# Altium schematic symbol library Capacitors.SchLib: 18 symbols
Pins are listed as number, name and electrical type; pins without a type are passive.

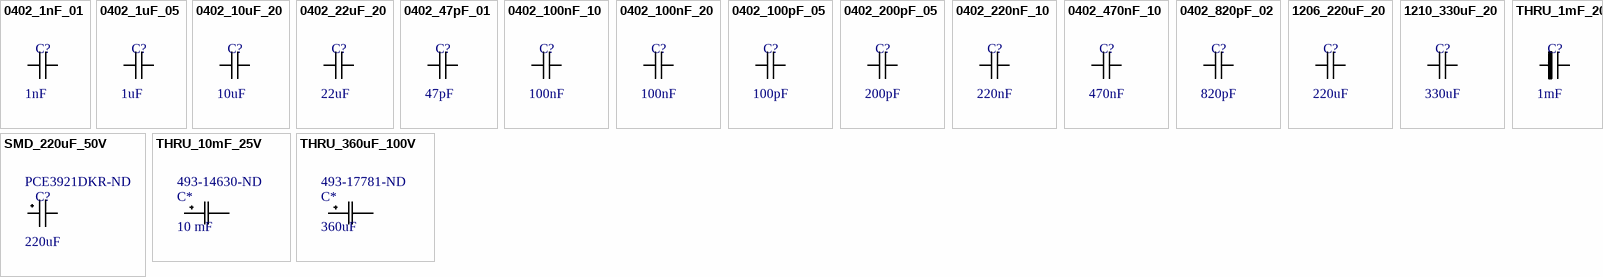
[diagram p0: symbols 0402_1nF_01 to THRU_360uF_100V]

## 0402_1nF_01
designator C?, comment 1nF
1nF 1% 0402; Supplier 1: Digi-Key; Supplier Part Number 1: 490-6189-1-ND; Value: 1nF
footprint RES0402R (resistor 0402 reflow soldering)
pins: 1, 2

## 0402_1uF_05
designator C?, comment 1uF
1uF 5% 0402; Supplier 1: Digi-Key; Supplier Part Number 1: 1276-1444-1-ND; Value: 1uF
footprint RES0402R (resistor 0402 reflow soldering)
pins: 1, 2

## 0402_10uF_20
designator C?, comment 10uF
10uF 20% 0402; Supplier 1: Digi-Key; Supplier Part Number 1: 490-13233-1-ND; Value: 10uF
footprint RES0402R (resistor 0402 reflow soldering)
pins: 1, 2

## 0402_22uF_20
designator C?, comment 22uF
22uF 20% 0402; Supplier 1: Digi-Key; Supplier Part Number 1: 1276-6804-1-ND; Value: 22uF
footprint RES0402R (resistor 0402 reflow soldering)
pins: 1, 2

## 0402_47pF_01
designator C?, comment 47pF
47pF 1% 0402; Supplier 1: Digi-Key; Supplier Part Number 1: 490-6241-1-ND; Value: 47pF
footprint RES0402R (resistor 0402 reflow soldering)
pins: 1, 2

## 0402_100nF_10
designator C?, comment 100nF
100nF 10% 0402; Supplier 1: Digi-Key; Supplier Part Number 1: 490-6328-1-ND; Value: 100nF
footprint RES0402R (resistor 0402 reflow soldering)
pins: 1, 2

## 0402_100nF_20
designator C?, comment 100nF
100nF 20% 0402; Supplier 1: Digi-Key; Supplier Part Number 1: 490-10459-1-ND; Value: 100nF
footprint RES0402R (resistor 0402 reflow soldering)
pins: 1, 2

## 0402_100pF_05
designator C?, comment 100pF
100pF 5% 0402; Supplier 1: Digi-Key; Supplier Part Number 1: 490-7753-1-ND; Value: 100pF
footprint RES0402R (resistor 0402 reflow soldering)
pins: 1, 2

## 0402_200pF_05
designator C?, comment 200pF
200pF 5% 0402; Supplier 1: Digi-Key; Supplier Part Number 1: 490-3232-1-ND; Value: 200pF
footprint RES0402R (resistor 0402 reflow soldering)
pins: 1, 2

## 0402_220nF_10
designator C?, comment 220nF
220nF 10% 0402; Supplier 1: Digi-Key; Supplier Part Number 1: 587-3500-1-ND; Value: 220nF
footprint RES0402R (resistor 0402 reflow soldering)
pins: 1, 2

## 0402_470nF_10
designator C?, comment 470nF
470nF 10% 0402; Supplier 1: Digi-Key; Supplier Part Number 1: 587-3497-1-ND; Value: 470nF
footprint RES0402R (resistor 0402 reflow soldering)
pins: 1, 2

## 0402_820pF_02
designator C?, comment 820pF
820pF 2% 0402; Supplier 1: Digi-Key; Supplier Part Number 1: 490-10688-1-ND; Value: 820pF
footprint RES0402R (resistor 0402 reflow soldering)
pins: 1, 2

## 1206_220uF_20
designator C?, comment 220uF
330uF 20% 1210; Supplier 1: Digi-Key; Supplier Part Number 1: 490-13965-1-ND; Value: 220uF
footprint 1206_CAP (Chip Capacitor, 2-Leads, Body 3.20x1.60mm, IPC High Density)
pins: 1, 2

## 1210_330uF_20
designator C?, comment 330uF
330uF 20% 1210; Supplier 1: Digi-Key; Supplier Part Number 1: 587-3976-1-ND; Value: 330uF
footprint 1210_CAP (Chip Capacitor, 2-Leads, Body 3.20x2.50mm, IPC High Density)
pins: 1, 2

## SMD_220uF_50V
designator C?, comment Supplier Part Number 1: PCE3921DKR-ND  (hidden comment: 220uF)
220uF_50V; Supplier 1: Digi-Key; Value: 220uF
footprint PAN_CAPAE_220uF_50V (Aluminum Electrolytic Capacitor, Body 10.30x10.30x10.50mm, IPC High Density)
pins: 1, 2

## THRU_1mF_20
designator C?, comment 1mF
1mF 20% Thru-Hole; Supplier 1: Digi-Key; Supplier Part Number 1: 399-6624-ND; Value: 1mF
footprint KEM_CAP_THRU
pins: 1, 2

## THRU_10mF_25V
designator C*, comment 10 mF  Supplier Part Number 1: 493-14630-ND
10000 µF 25 V Aluminum Electrolytic Capacitors Radial, Can 19mOhm @ 100kHz 3000 Hrs @ 135°C; Tolerance: +/- 20%; Supplier 1: Digi-Key; Capacitance: 10 mF; ESR: 19 mOhm @ 100kHz
footprint UBY1E103MHL (10000 µF 25 V Aluminum Electrolytic Capacitors Radial, Can 19mOhm @ 100kHz 3000 Hrs @ 135°C)
pins: 1, 2

## THRU_360uF_100V
designator C*, comment 360uF  Supplier Part Number 1: 493-17781-ND
360 µF 100 V Aluminum Electrolytic Capacitors Radial, Can 38mOhm @ 100kHz 3000 Hrs @ 135°C; Tolerance: 20%; Supplier 1: Digi-Key; Capacitance: 360 uF; ESR: 38mOhm @ 100kHz
footprint UBY2A361MHL (CAP ALUM 360UF 20% 100V RADIAL)
pins: 1, 2